# Altium schematic symbol library логика.SchLib: 42 symbols
Pins are listed as number, name and electrical type; pins without a type are passive.

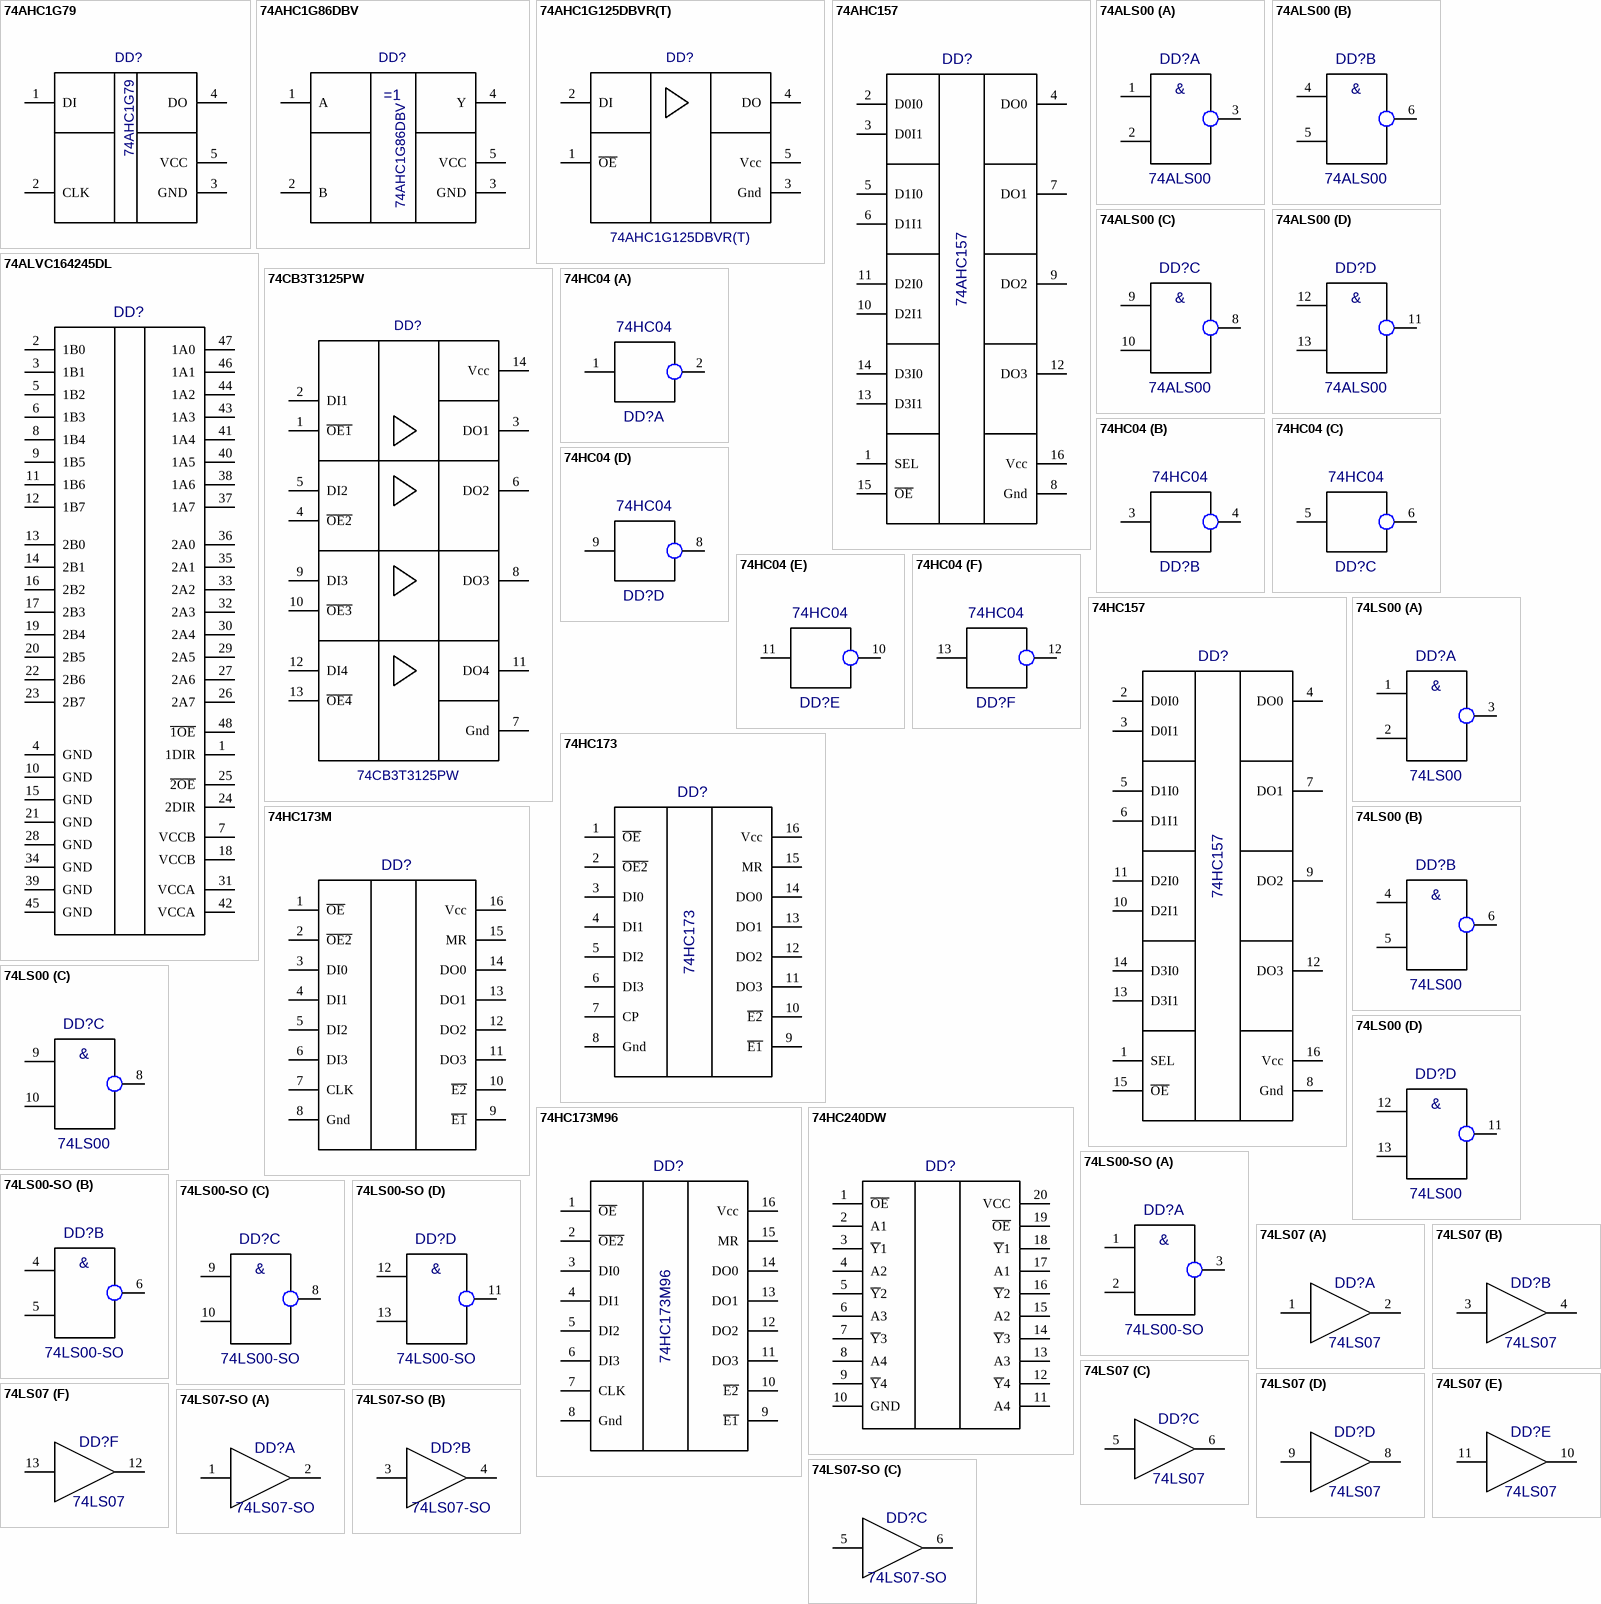
[diagram p0: symbols 74AHC1G79 to 74LS07-SO]

## 74AHC1G79
designator DD?
Value: *
footprint SOT353
pins: 1 DI, 2 CLK, 3 GND, 4 DO, 5 VCC

## 74AHC1G86DBV
designator DD?
Value: *
footprint SOT23-5
pins: 1 A, 2 B, 3 GND, 4 Y, 5 VCC

## 74AHC1G125DBVR(T)
designator DD?
Value: *
footprint SOT23-5
pins: 1 ~{OE}, 2 DI, 3 Gnd, 4 DO, 5 Vcc

## 74AHC157
designator DD?
Value: *
footprint SO16
pins: 1 SEL, 2 D0I0, 3 D0I1, 4 DO0, 5 D1I0, 6 D1I1, 7 DO1, 8 Gnd, 9 DO2, 10 D2I1, 11 D2I0, 12 DO3, 13 D3I1, 14 D3I0, 15 ~{OE}, 16 Vcc

## 74ALS00
designator DD?
Value: *
footprint SO14
pins on every part: 7 GND (power) hidden, 14 +5V (power) hidden
part A pins: 1 A, 2 B, 3 C
part B pins: 4 A, 5 B, 6 C
part C pins: 8 C, 9 A, 10 B
part D pins: 11 C, 12 A, 13 B
part A text: &
part B text: &
part C text: &
part D text: &

## 74ALVC164245DL
designator DD?  (value not drawn)
Value: *
footprint 74ALVC164245DL
pins: 1 1DIR, 2 1B0, 3 1B1, 4 GND, 5 1B2, 6 1B3, 7 VCCB, 8 1B4, 9 1B5, 10 GND, 11 1B6, 12 1B7, 13 2B0, 14 2B1, 15 GND, 16 2B2, 17 2B3, 18 VCCB, 19 2B4, 20 2B5, 21 GND, 22 2B6, 23 2B7, 24 2DIR, 25 ~{2OE}, 26 2A7, 27 2A6, 28 GND, 29 2A5, 30 2A4, 31 VCCA, 32 2A3, 33 2A2, 34 GND, 35 2A1, 36 2A0, 37 1A7, 38 1A6, 39 GND, 40 1A5, 41 1A4, 42 VCCA, 43 1A3, 44 1A2, 45 GND, 46 1A1, 47 1A0, 48 ~{1OE}

## 74CB3T3125PW
designator DD?
Value: *
footprint TSSOP14
pins: 1 ~{OE1}, 2 DI1, 3 DO1, 4 ~{OE2}, 5 DI2, 6 DO2, 7 Gnd, 8 DO3, 9 DI3, 10 ~{OE3}, 11 DO4, 12 DI4, 13 ~{OE4}, 14 Vcc

## 74HC04
designator DD?
Value: *
footprint SO14
pins on every part: 7 DGND (power) hidden, 14 +5VD (power) hidden
part A pins: 1 A, 2 B
part B pins: 3 A, 4 B
part C pins: 5 A, 6 B
part D pins: 8 B, 9 A
part E pins: 10 B, 11 A
part F pins: 12 B, 13 A

## 74HC157
designator DD?
Value: *
footprint SO16
pins: 1 SEL, 2 D0I0, 3 D0I1, 4 DO0, 5 D1I0, 6 D1I1, 7 DO1, 8 Gnd, 9 DO2, 10 D2I1, 11 D2I0, 12 DO3, 13 D3I1, 14 D3I0, 15 ~{OE}, 16 Vcc

## 74HC173
designator DD?
Value: *
footprint SO16
pins: 1 ~{OE}, 2 ~{OE2}, 3 DI0, 4 DI1, 5 DI2, 6 DI3, 7 CP, 8 Gnd, 9 ~{E1}, 10 ~{E2}, 11 DO3, 12 DO2, 13 DO1, 14 DO0, 15 MR, 16 Vcc

## 74HC173M
designator DD?  (value not drawn)
Value: {Value}
footprint SO16
pins: 1 ~{OE}, 2 ~{OE2}, 3 DI0, 4 DI1, 5 DI2, 6 DI3, 7 CLK, 8 Gnd, 9 ~{E1}, 10 ~{E2}, 11 DO3, 12 DO2, 13 DO1, 14 DO0, 15 MR, 16 Vcc

## 74HC173M96
designator DD?
Value: *
footprint SO16
pins: 1 ~{OE}, 2 ~{OE2}, 3 DI0, 4 DI1, 5 DI2, 6 DI3, 7 CLK, 8 Gnd, 9 ~{E1}, 10 ~{E2}, 11 DO3, 12 DO2, 13 DO1, 14 DO0, 15 MR, 16 Vcc

## 74HC240DW
designator DD?  (value not drawn)
Value: *
footprint 74HC240DW
pins: 1 ~{OE}, 2 A1, 3 ~{Y}1, 4 A2, 5 ~{Y}2, 6 A3, 7 ~{Y}3, 8 A4, 9 ~{Y}4, 10 GND, 11 A4, 12 ~{Y}4, 13 A3, 14 ~{Y}3, 15 A2, 16 ~{Y}2, 17 A1, 18 ~{Y}1, 19 ~{OE}, 20 VCC

## 74LS00
designator DD?
Value: *
footprint DIP14
pins on every part: 7 GND (power) hidden, 14 +5V (power) hidden
part A pins: 1 A, 2 B, 3 C
part B pins: 4 A, 5 B, 6 C
part C pins: 8 C, 9 A, 10 B
part D pins: 11 C, 12 A, 13 B
part A text: &
part B text: &
part C text: &
part D text: &

## 74LS00-SO
designator DD?
Value: *
footprint SO14
pins on every part: 7 GND (power) hidden, 14 +5V (power) hidden
part A pins: 1 A, 2 B, 3 C
part B pins: 4 A, 5 B, 6 C
part C pins: 8 C, 9 A, 10 B
part D pins: 11 C, 12 A, 13 B
part A text: &
part B text: &
part C text: &
part D text: &

## 74LS07
designator DD?
Value: *
footprint DIP14
pins on every part: 7 GND (power) hidden, 14 +5V (power) hidden
part A pins: 1 IN, 2 OUT
part B pins: 3 IN, 4 OUT
part C pins: 5 IN, 6 OUT
part D pins: 8 OUT, 9 IN
part E pins: 10 OUT, 11 IN
part F pins: 12 OUT, 13 IN

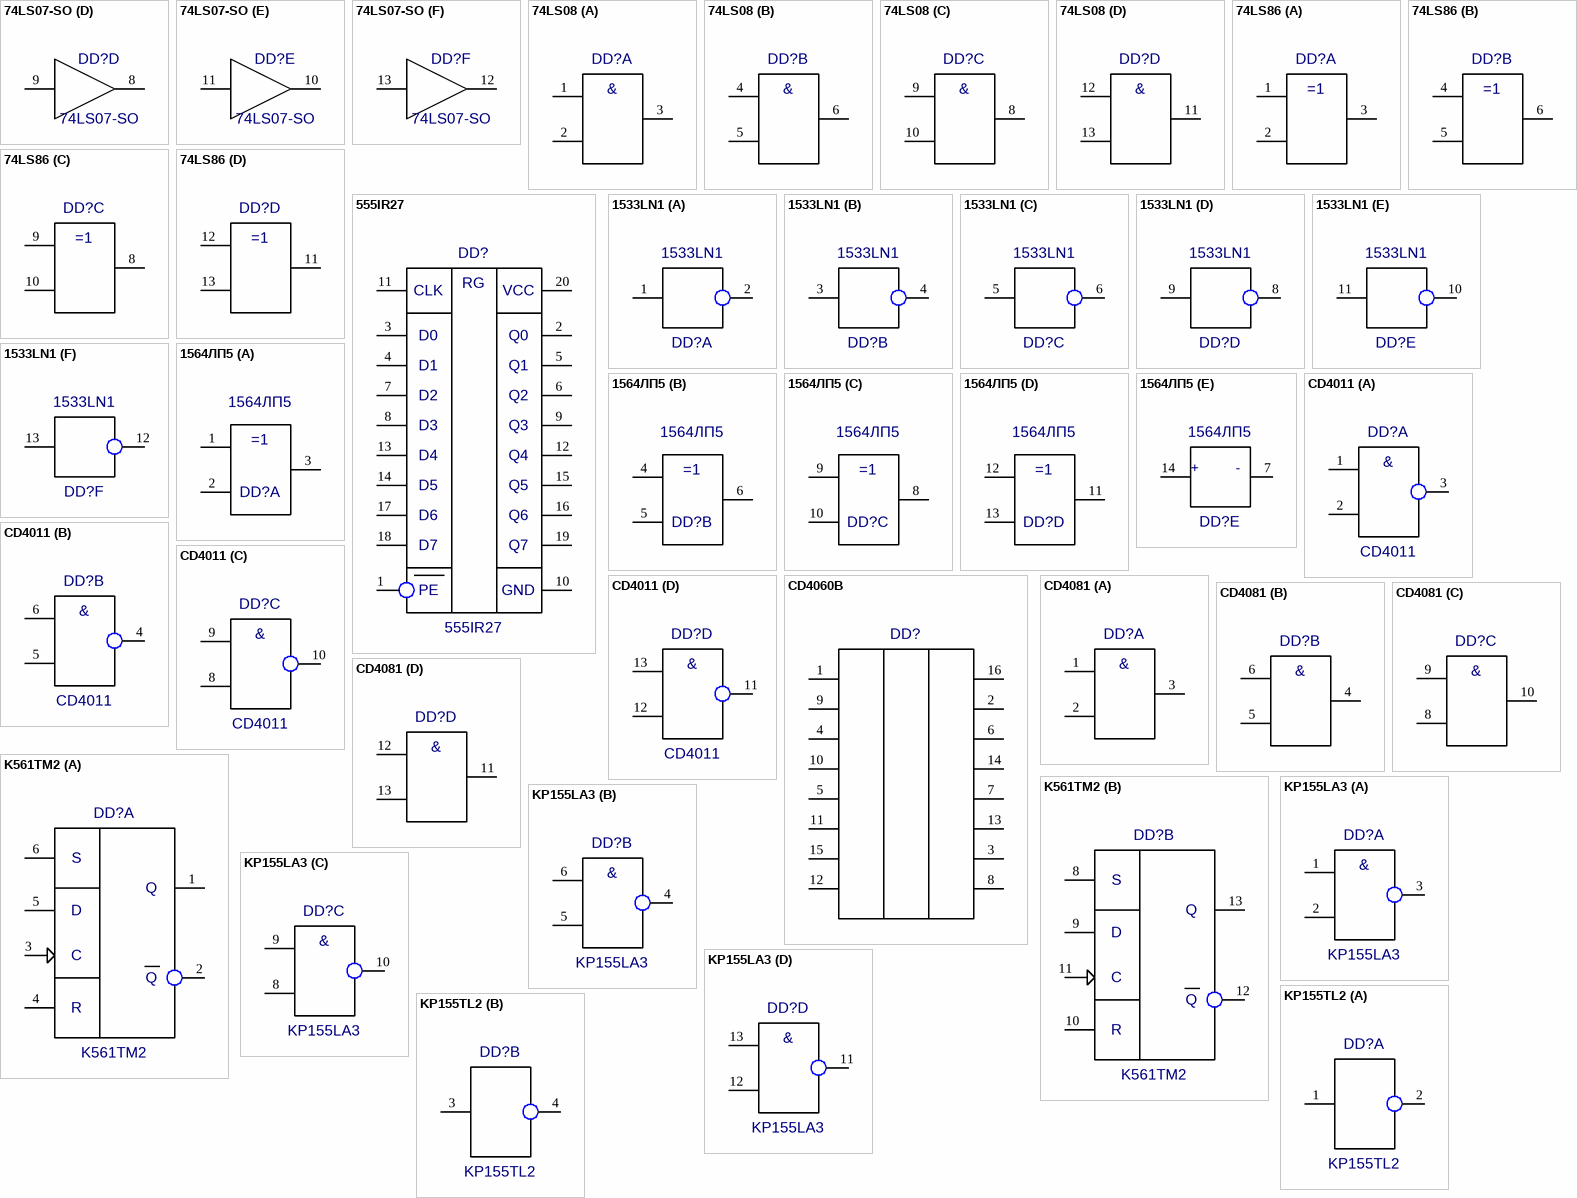
[diagram p1: symbols 74LS07-SO to KP155TL2]

## 74LS07-SO
designator DD?
Value: *
footprint SO14
pins on every part: 7 GND (power) hidden, 14 +5V (power) hidden
part A pins: 1 IN, 2 OUT
part B pins: 3 IN, 4 OUT
part C pins: 5 IN, 6 OUT
part D pins: 8 OUT, 9 IN
part E pins: 10 OUT, 11 IN
part F pins: 12 OUT, 13 IN

## 74LS08
designator DD?  (value not drawn)
Value: *
footprint DIP14
pins on every part: 7 GND (power) hidden, 14 +5V (power) hidden
part A pins: 1 A, 2 B, 3 C
part B pins: 4 A, 5 B, 6 C
part C pins: 8 C, 9 A, 10 B
part D pins: 11 C, 12 A, 13 B
part A text: &
part B text: &
part C text: &
part D text: &

## 74LS86
designator DD?  (value not drawn)
Value: *
footprint DIP14
pins on every part: 7 GND (power) hidden, 14 +5V (power) hidden
part A pins: 1 A, 2 B, 3 C
part B pins: 4 A, 5 B, 6 C
part C pins: 8 C, 9 A, 10 B
part D pins: 11 C, 12 A, 13 B

## 555IR27
designator DD?
Value: *
footprint DIP20
pins: 1 G, 2 Q0, 3 D0, 4 D1, 5 Q1, 6 Q2, 7 D2, 8 D3, 9 Q3, 10 GND (power), 11 CLK, 12 Q4, 13 D4, 14 D5, 15 Q5, 16 Q6, 17 D6, 18 D7, 19 Q7, 20 VCC (power)
text: RG; PE

## 1533LN1
designator DD?
Value: *
footprint DIP14
pins on every part: 7 +5V (power) hidden, 14 GND (power) hidden
part A pins: 1 A, 2 B
part B pins: 3 A, 4 B
part C pins: 5 A, 6 B
part D pins: 8 B, 9 A
part E pins: 10 B, 11 A
part F pins: 12 B, 13 A

## 1564ЛП5
designator DD?
Value: *
footprint 401.14-5
part A pins: 1 A, 2 B, 3 C
part B pins: 4 A, 5 B, 6 C
part C pins: 8 c, 9 a, 10 b
part D pins: 11 c, 12 a, 13 b
part E pins: 7 GND (power), 14 +5V (power)
part E text: +; -

## CD4011
designator DD?
Value: *
footprint SO14
pins on every part: 7 GND (power) hidden, 14 +5V (power) hidden
part A pins: 1 A, 2 B, 3 C
part B pins: 4 C, 5 B, 6 A
part C pins: 8 B, 9 A, 10 C
part D pins: 11 C, 12 B, 13 A
part A text: &
part B text: &
part C text: &
part D text: &

## CD4060B
designator DD?  (value not drawn)
Value: *
footprint SO16
pins: 1, 2, 3, 4, 5, 6, 7, 8, 9, 10, 11, 12, 13, 14, 15, 16

## CD4081
designator DD?  (value not drawn)
Value: *
footprint DIP14
pins on every part: 7 GND (power) hidden, 14 +5V (power) hidden
part A pins: 1 A, 2 B, 3 C
part B pins: 4 C, 5 B, 6 A
part C pins: 8 B, 9 A, 10 C
part D pins: 11 C, 12 A, 13 B
part A text: &
part B text: &
part C text: &
part D text: &

## K561TM2
designator DD?
Value: *
footprint DIP14
pins on every part: 7 GND (power) hidden, 14 +12V (power) hidden
part A pins: 1 Q, 2 Q, 3 C, 4 R, 5 D, 6 S
part B pins: 8 S, 9 D, 10 R, 11 C, 12 Q, 13 Q

## KP155LA3
designator DD?
Value: *
footprint DIP14
pins on every part: 7 GND (power) hidden, 14 +12V (power) hidden
part A pins: 1 A, 2 B, 3 C
part B pins: 4 C, 5 B, 6 A
part C pins: 8 B, 9 A, 10 C
part D pins: 11 C, 12 B, 13 A
part A text: &
part B text: &
part C text: &
part D text: &

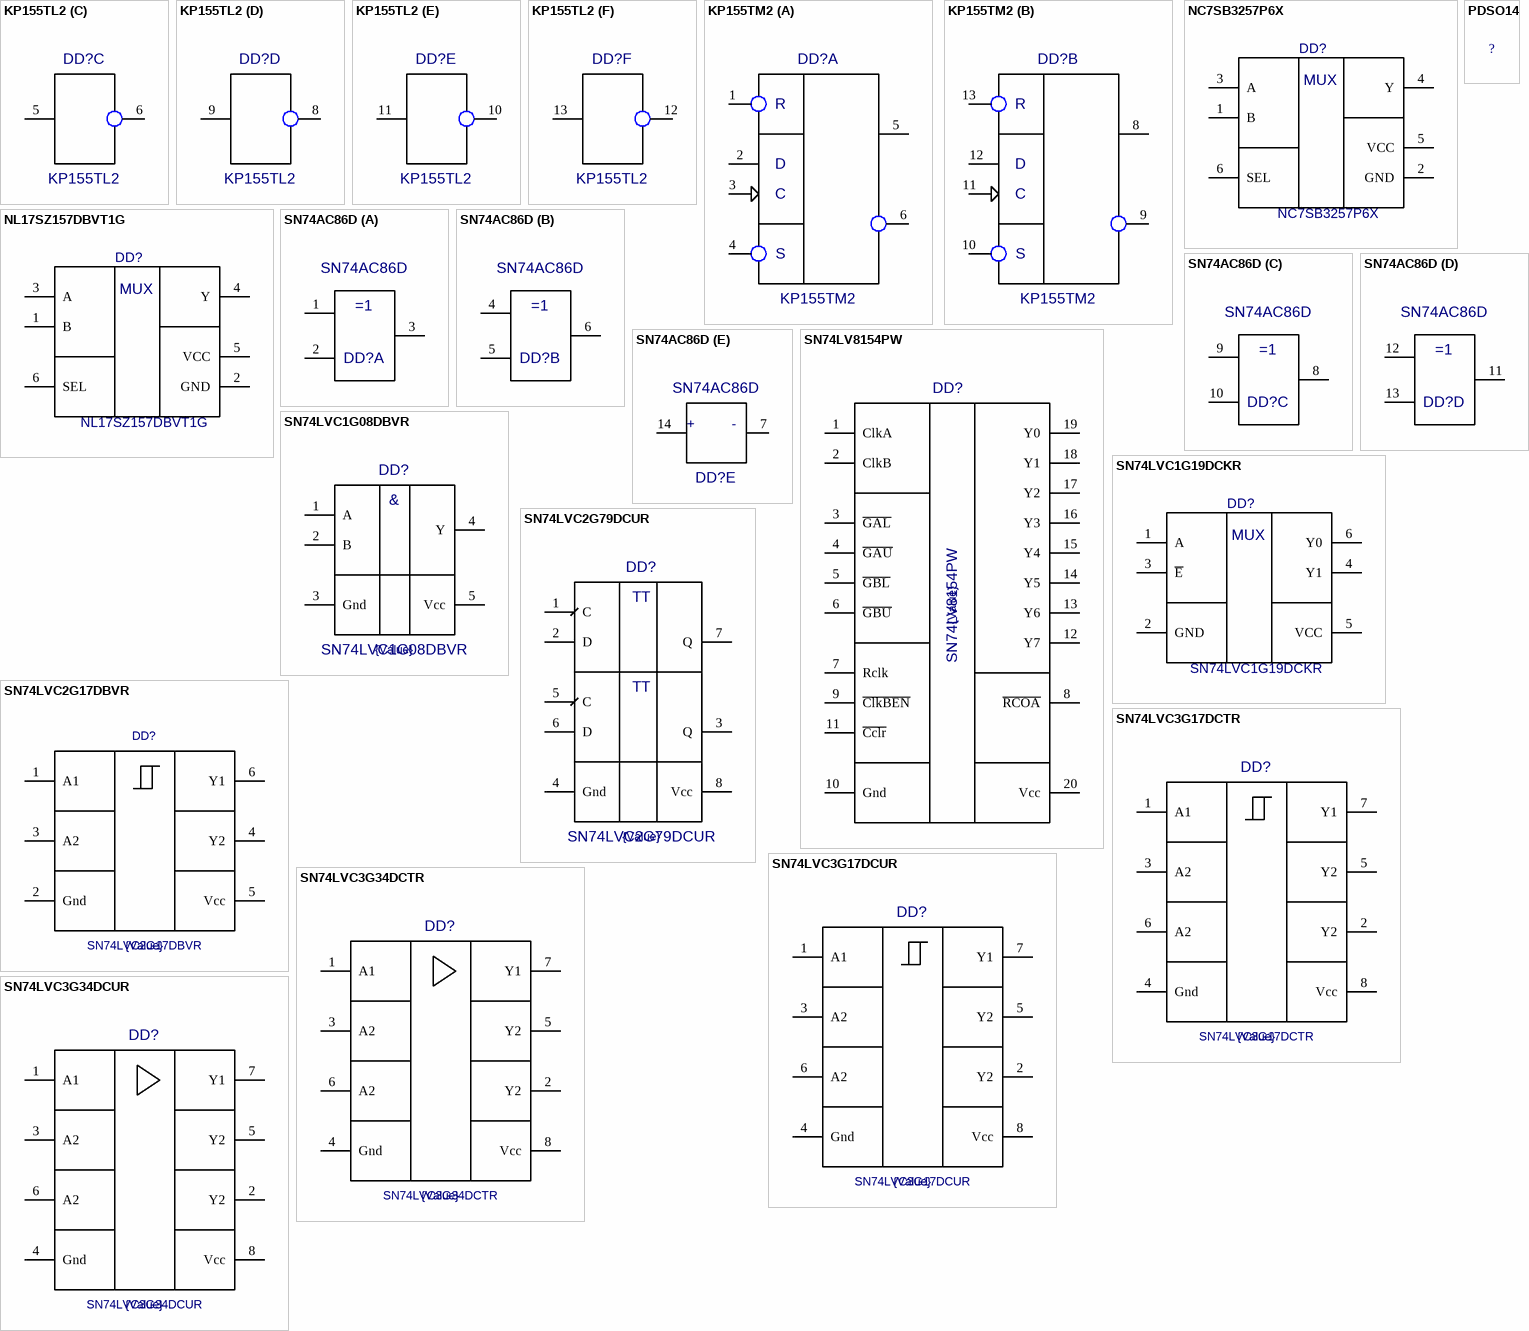
[diagram p2: symbols KP155TL2 to SN74LVC3G34DCUR]

## KP155TL2
designator DD?
Value: *
footprint DIP14
pins on every part: 7 GND (power) hidden, 14 +5V (power) hidden
part A pins: 1 A, 2 B
part B pins: 3 A, 4 B
part C pins: 5 A, 6 B
part D pins: 8 B, 9 A
part E pins: 10 B, 11 A
part F pins: 12 B, 13 A

## KP155TM2
designator DD?
Value: *
footprint DIP14
pins on every part: 7 GND (power) hidden, 14 +5V (power) hidden
part A pins: 1 R, 2 D, 3 C, 4 S, 5 Q, 6 Q
part B pins: 8 Q, 9 Q, 10 S, 11 C, 12 D, 13 R

## NC7SB3257P6X
designator DD?
2:1 Multiplexer/Demultiplexer Bus Switch, 1.65 to 5.5 V supply, SC−70-6; Manufacturer 1: ON Semiconductor; Value: NC7SB3257P6X; Manufacturer Part Number 1: NC7SB3257P6X; ComponentLink1Description: Datasheet; ComponentLink1URL: https://www.onsemi.com/pdf/datasheet/nl17sz157-d.pdf
footprint SC70-6 (SC70-6; SOT-363)
pins: 1 B, 2 GND, 3 A, 4 Y, 5 VCC, 6 SEL
text: MUX

## NL17SZ157DBVT1G
designator DD?
Single 2−input non−inverting multiplexer / operating from a 1.65 to 5.5 V supply, SC−74 / CASE 318F−05; Manufacturer 1: ON Semiconductor; Value: NL17SZ157DBVT1G; Manufacturer Part Number 1: NL17SZ157DBVT1G; ComponentLink1Description: Datasheet; ComponentLink1URL: https://www.onsemi.com/pdf/datasheet/nl17sz157-d.pdf
pins: 1 B, 2 GND, 3 A, 4 Y, 5 VCC, 6 SEL
text: MUX

## PDSO14
designator ?  (value not drawn)
Value: *
footprint 401.14-5
pins: 1 hidden, 2 hidden, 3 hidden, 4 hidden, 5 hidden, 6 hidden, 7 hidden, 8 hidden, 9 hidden, 10 hidden, 11 hidden, 12 hidden, 13 hidden, 14 hidden

## SN74AC86D
designator DD?
Value: *
footprint PDSO14
part A pins: 1 A, 2 B, 3 C
part B pins: 4 A, 5 B, 6 C
part C pins: 8 c, 9 a, 10 b
part D pins: 11 c, 12 a, 13 b
part E pins: 7 GND (power), 14 +5V (power)
part E text: +; -

## SN74LV8154PW
designator DD?  value {Value}
footprint TSSOP20
pins: 1 ClkA, 2 ClkB, 3 ~{GAL}, 4 ~{GAU}, 5 ~{GBL}, 6 ~{GBU}, 7 Rclk, 8 ~{RCOA}, 9 ~{ClkBEN}, 10 Gnd, 11 ~{Cclr}, 12 Y7, 13 Y6, 14 Y5, 15 Y4, 16 Y3, 17 Y2, 18 Y1, 19 Y0, 20 Vcc

## SN74LVC1G08DBVR
designator DD?  value {Value}
footprint SOT23-5
pins: 1 A, 2 B, 3 Gnd, 4 Y, 5 Vcc
text: &

## SN74LVC1G19DCKR
designator DD?
1-of-2 Decoder and Demultiplexer, / operating from a 1.65 to 5.5 V supply, SC−70; Manufacturer 1: Texas Instruments; Value: SN74LVC1G19DCKR; Manufacturer Part Number 1: SN74LVC1G19DCKR; ComponentLink1Description: Datasheet; ComponentLink1URL: https://www.onsemi.com/pdf/datasheet/nl17sz157-d.pdf
footprint SC70-6 (SC70-6; SOT-363)
pins: 1 A, 2 GND, 3 ~{E}, 4 Y1, 5 VCC, 6 Y0
text: MUX

## SN74LVC2G17DBVR
designator DD?  value {Value}
footprint SOT23-6
pins: 1 A1, 2 Gnd, 3 A2, 4 Y2, 5 Vcc, 6 Y1

## SN74LVC2G79DCUR
designator DD?  value {Value}
footprint VSSOP-8
pins: 1 C, 2 D, 3 Q, 4 Gnd, 5 C, 6 D, 7 Q, 8 Vcc
text: TT

## SN74LVC3G17DCTR
designator DD?  value {Value}
footprint SSOP-8
pins: 1 A1, 2 Y2, 3 A2, 4 Gnd, 5 Y2, 6 A2, 7 Y1, 8 Vcc

## SN74LVC3G17DCUR
designator DD?  value {Value}
footprint VSSOP-8
pins: 1 A1, 2 Y2, 3 A2, 4 Gnd, 5 Y2, 6 A2, 7 Y1, 8 Vcc

## SN74LVC3G34DCTR
designator DD?  value {Value}
footprint SSOP-8
pins: 1 A1, 2 Y2, 3 A2, 4 Gnd, 5 Y2, 6 A2, 7 Y1, 8 Vcc

## SN74LVC3G34DCUR
designator DD?  value {Value}
footprint VSSOP-8
pins: 1 A1, 2 Y2, 3 A2, 4 Gnd, 5 Y2, 6 A2, 7 Y1, 8 Vcc